# EAGLE library part VME-LOGICAL (library Atari)
Atari VME slot, laid out logically
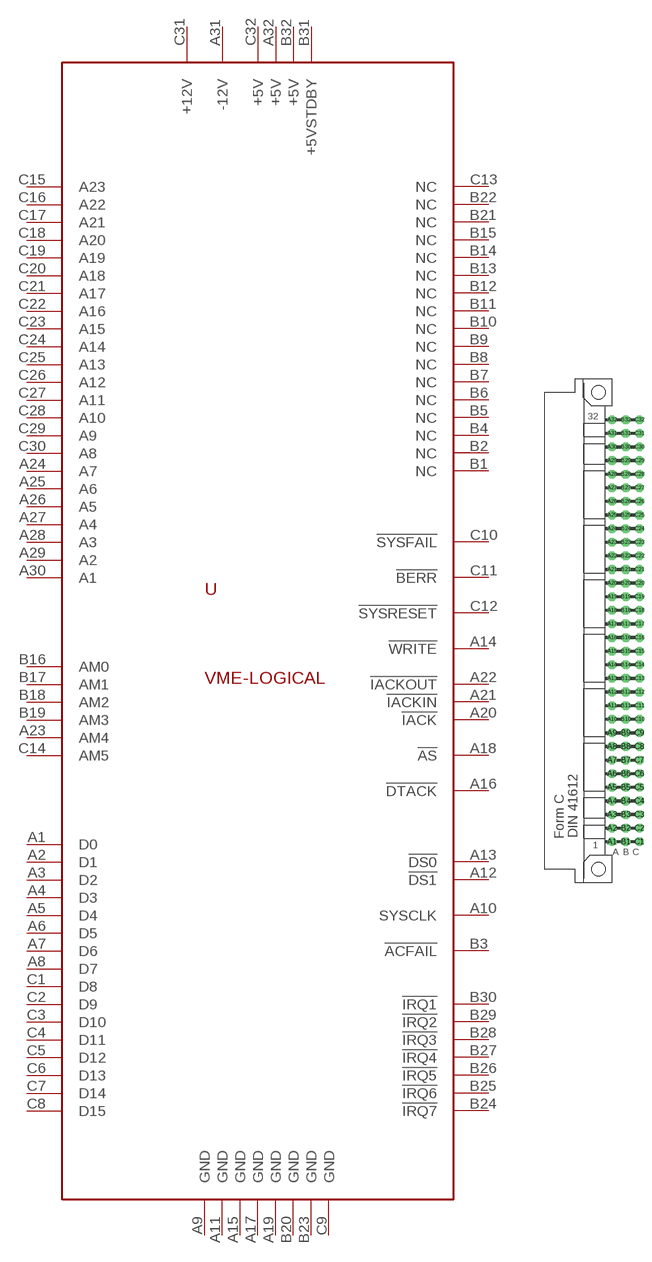
[diagram p5: symbol with the pads of ATARIVMESLOT; footprint ATARIVMESLOT]

Designator prefix -

## VME-LOGICAL  [ATARIVMESLOT]
A1  D0
A2  D1
A3  D2
A4  D3
A5  D4
A6  D5
A7  D6
A8  D7
A9  GND
A10  SYSCLK
A11  GND
A12  !DS1!
A13  !DS0!
A14  !WRITE!
A15  GND
A16  !DTACK!
A17  GND
A18  !AS!
A19  GND
A20  !IACK!
A21  !IACKIN!
A22  !IACKOUT!
A23  AM4
A24  A7
A25  A6
A26  A5
A27  A4
A28  A3
A29  A2
A30  A1
A31  -12V
A32  +5V
B1  NC
B2  NC
B3  !ACFAIL!
B4  NC
B5  NC
B6  NC
B7  NC
B8  NC
B9  NC
B10  NC
B11  NC
B12  NC
B13  NC
B14  NC
B15  NC
B16  AM0
B17  AM1
B18  AM2
B19  AM3
B20  GND
B21  NC
B22  NC
B23  GND
B24  !IRQ7!
B25  !IRQ6!
B26  !IRQ5!
B27  !IRQ4!
B28  !IRQ3!
B29  !IRQ2!
B30  !IRQ1!
B31  +5VSTDBY
B32  +5V
C1  D8
C2  D9
C3  D10
C4  D11
C5  D12
C6  D13
C7  D14
C8  D15
C9  GND
C10  !SYSFAIL!
C11  !BERR!
C12  !SYSRESET!
C13  NC
C14  AM5
C15  A23
C16  A22
C17  A21
C18  A20
C19  A19
C20  A18
C21  A17
C22  A16
C23  A15
C24  A14
C25  A13
C26  A12
C27  A11
C28  A10
C29  A9
C30  A8
C31  +12V
C32  +5V

## Footprint ATARIVMESLOT (pad centres in mm)
VME connector on Atari
drill 0.914 pad 1.6: A1 12.7,-83.82
drill 0.914 pad 1.6 octagon: A2 12.7,-81.28; A3 12.7,-78.74; A4 12.7,-76.2; A5 12.7,-73.66; A6 12.7,-71.12; A7 12.7,-68.58; A8 12.7,-66.04; A9 12.7,-63.5; A10 12.7,-60.96; A11 12.7,-58.42; A12 12.7,-55.88; A13 12.7,-53.34; A14 12.7,-50.8; A15 12.7,-48.26; A16 12.7,-45.72; A17 12.7,-43.18; A18 12.7,-40.64; A19 12.7,-38.1; A20 12.7,-35.56; A21 12.7,-33.02; A22 12.7,-30.48; A23 12.7,-27.94; A24 12.7,-25.4; A25 12.7,-22.86; A26 12.7,-20.32; A27 12.7,-17.78; A28 12.7,-15.24; A29 12.7,-12.7; A30 12.7,-10.16; A31 12.7,-7.62; A32 12.7,-5.08; B1 15.24,-83.82; B2 15.24,-81.28; B3 15.24,-78.74; B4 15.24,-76.2; B5 15.24,-73.66; B6 15.24,-71.12; B7 15.24,-68.58; B8 15.24,-66.04; B9 15.24,-63.5; B10 15.24,-60.96; B11 15.24,-58.42; B12 15.24,-55.88; B13 15.24,-53.34; B14 15.24,-50.8; B15 15.24,-48.26; B16 15.24,-45.72; B17 15.24,-43.18; B18 15.24,-40.64; B19 15.24,-38.1; B20 15.24,-35.56; B21 15.24,-33.02; B22 15.24,-30.48; B23 15.24,-27.94; B24 15.24,-25.4; B25 15.24,-22.86; B26 15.24,-20.32; B27 15.24,-17.78; B28 15.24,-15.24; B29 15.24,-12.7; B30 15.24,-10.16; B31 15.24,-7.62; B32 15.24,-5.08; C1 17.78,-83.82; C2 17.78,-81.28; C3 17.78,-78.74; C4 17.78,-76.2; C5 17.78,-73.66; C6 17.78,-71.12; C7 17.78,-68.58; C8 17.78,-66.04; C9 17.78,-63.5; C10 17.78,-60.96; C11 17.78,-58.42; C12 17.78,-55.88; C13 17.78,-53.34; C14 17.78,-50.8; C15 17.78,-48.26; C16 17.78,-45.72; C17 17.78,-43.18; C18 17.78,-40.64; C19 17.78,-38.1; C20 17.78,-35.56; C21 17.78,-33.02; C22 17.78,-30.48; C23 17.78,-27.94; C24 17.78,-25.4; C25 17.78,-22.86; C26 17.78,-20.32; C27 17.78,-17.78; C28 17.78,-15.24; C29 17.78,-12.7; C30 17.78,-10.16; C31 17.78,-7.62; C32 17.78,-5.08